# Altium schematic symbol library TP4056.SchLib: 1 symbol
Pins are listed as number, name and electrical type; pins without a type are passive.

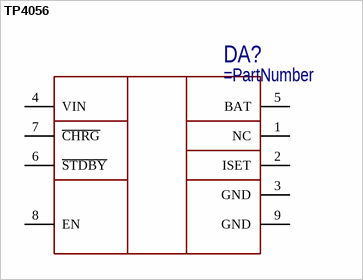
[diagram p0: symbol TP4056]

## TP4056
designator DA?
TP4056, Контроллер заряда Li-Ion аккумуляторов, 1А, UMW
pins: 1 NC, 2 ISET, 3 GND, 4 VIN, 5 BAT, 6 ~{STDBY}, 7 ~{CHRG}, 8 EN, 9 GND